# Altium schematic symbol library ZVS Primary.SchLib: 1 symbol
Pins are listed as number, name and electrical type; pins without a type are passive.

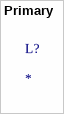
[diagram p0: symbol Primary]

## Primary
designator L?